# Altium footprint library Midas.PcbLib: 10 footprints
Each footprint in its own frame and in the unit in brackets; x right, y up, seen from the top. Pads: shape width x height; smd on the part's side, far side on the other; paste and mask are expansions set on the pad; w line width, h text height; cw(c..) or ccw(c..) is an arc to the next point about the centre after c.
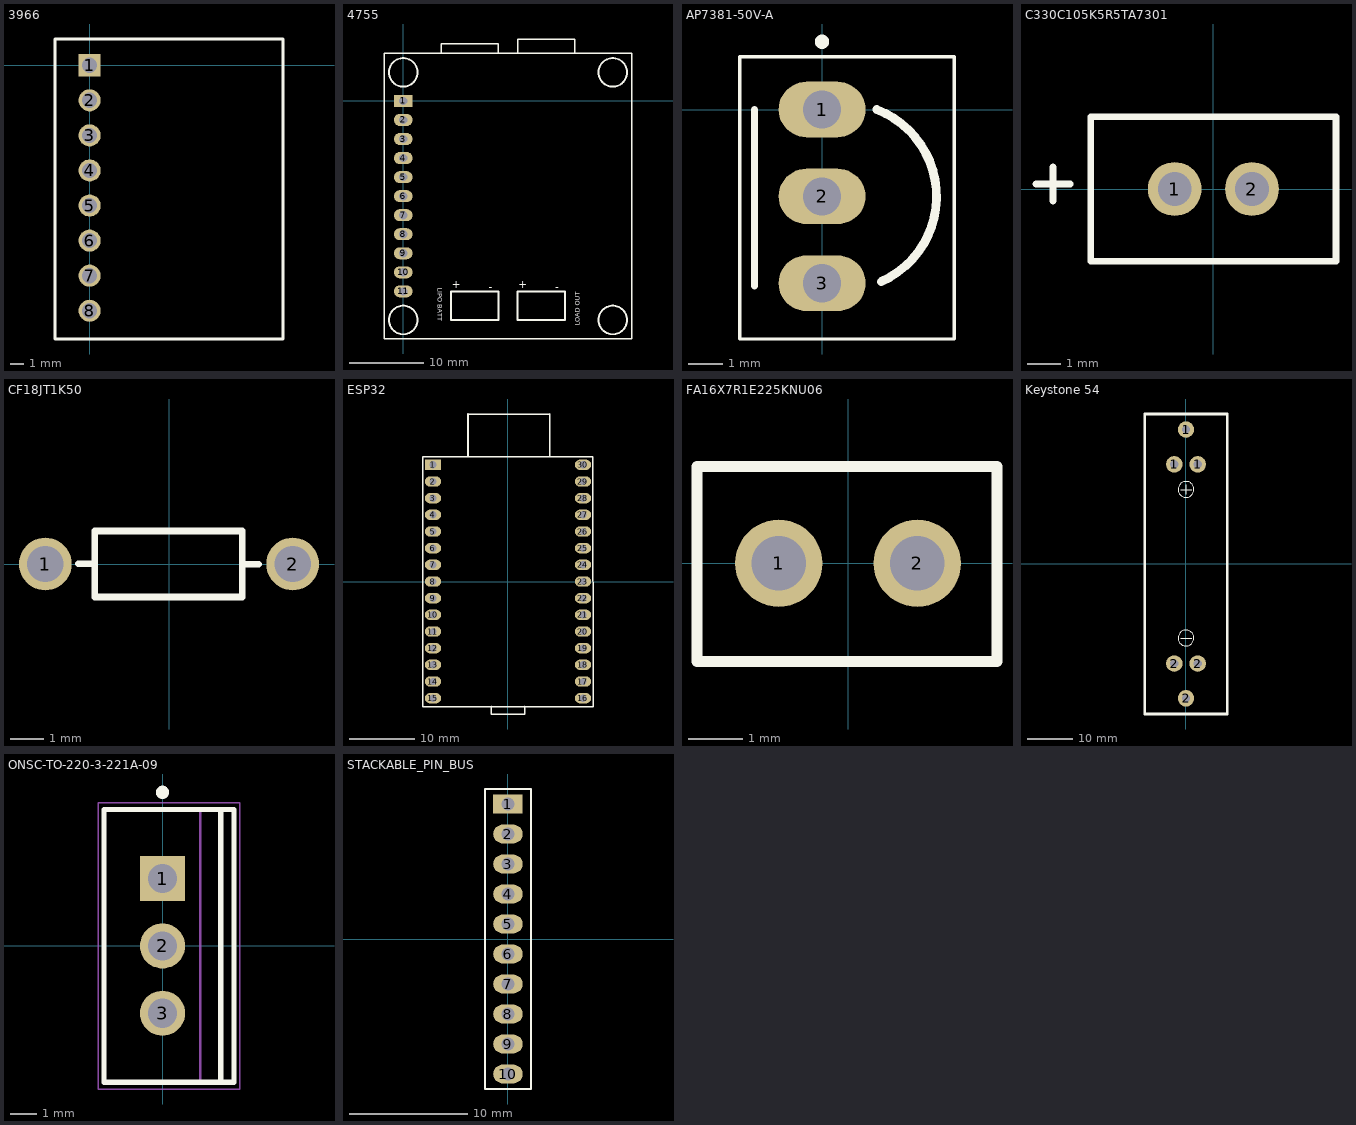
[diagram p0: the footprints below, top view; thin cyan lines are the x and y axes]

## 3966 [mm]
pads (8):
  rect 1.6x1.6 hole 1.1: 1(0,0)
  round 1.6 hole 1.1: 2(0,-2.54) 3(0,-5.08) 4(0,-7.62) 5(0,-10.16) 6(0,-12.7) 7(0,-15.24) 8(0,-17.78)
Top Overlay:
  lines w0.2: -2.5,-19.825 14,-19.825 14,1.9 -2.5,1.9 -2.5,-19.825
3D body "Adafruit BMP388 Breakout.step": height 1.47, standoff -10.13, extent -2.53,-19.74 13.98,1.85

## 4755 [mm]
pads (11):
  rect 2.5x1.6 hole 1.1: 1(0,0)
  oval 2.5x1.6 hole 1.1: 2(0,-2.54) 3(0,-5.08) 4(0,-7.62) 5(0,-10.16) 6(0,-12.7) 7(0,-15.24) 8(0,-17.78) 9(0,-20.32) 10(0,-22.86) 11(0,-25.4)
Top Overlay:
  circle w0.254: c0,3.81 r1.905
  circle w0.254: c0,-29.21 r1.905
  circle w0.254: c27.94,-29.21 r1.905
  circle w0.254: c27.94,3.81 r1.905
  lines w0.2: 5.08,6.35 5.08,7.62 12.7,7.62 12.7,6.35 ; 15.24,6.35 15.24,8.255 22.86,8.255 22.86,6.35 ; -2.54,-31.75 -2.54,6.35 30.48,6.35 30.48,-31.75 -2.54,-31.75
  lines w0.254: 6.35,-29.21 12.7,-29.21 12.7,-25.4 6.35,-25.4 6.35,-29.21 ; 15.24,-29.21 21.59,-29.21 21.59,-25.4 15.24,-25.4 15.24,-29.21
  text "-" at 11.404,-25.296 h1
  text "-" at 20.294,-25.296 h1
  text "+" at 16.536,-24.963 h1
  text "+" at 7.646,-24.963 h1
  text "LIPO BATT" at 4.604,-24.904 h0.65
  text "LOAD OUT" at 23.546,-29.996 h0.65
3D body "Adafruit_BQ24074_V5.step": height 12.57, standoff 0, extent -2.54,-31.802 30.48,9.372

## AP7381-50V-A [mm]
pads (3):
  oval 2.5x1.6 hole 1.1: 1(0,0) 2(0,-2.5) 3(0,-5)
Top Overlay:
  circle w0.254: c0,1.95 r0.079
  lines w0.1: -2.375,-6.604 -2.375,1.524 3.81,1.524 3.81,-6.604 -2.375,-6.604
  lines w0.2: -1.95,-5.08 -1.95,0
  lines w0.254: 1.575,0 cw(c0.612,-2.503) 1.701,-4.954
3D body "AP7381.STEP": height 9.83, standoff -10.09, extent -1.37,-5.205 2.29,0.205

## C330C105K5R5TA7301 [mm]
pads (2):
  round 1.6 / inner round 1.6 / far side round 1.2 hole 1: 1(-1.15,0)
  round 1.6 hole 1: 2(1.15,0)
Top Overlay:
  lines w0.2: -5.278,0.15 -4.262,0.15 ; -4.77,-0.358 -4.77,0.658 ; -3.65,-2.15 3.65,-2.15 3.65,2.15 -3.65,2.15 -3.65,-2.15
3D body "C330C105K5R5TA7301.step": height 7.23, standoff -18.41, extent -3.56,-2.038 3.55,2.038

## CF18JT1K50 [mm]
pads (2):
  round 1.6 hole 1.1: 1(-3.75,0) 2(3.75,0)
Top Overlay:
  lines w0.2: -2.75,0.004 -2.25,0 ; 2.725,-0.004 2.225,0 ; 2.225,0 2.225,1 -2.25,1 -2.25,-1 2.225,-1 2.225,0
3D body "STA_CF18_STP.step": height 2.01, standoff -2.79, extent -4.204,-1 4.204,0.992

## ESP32 [mm]
pads (30):
  rect 2.5x1.6 hole 1.1: 1(-11.43,17.78)
  oval 2.5x1.6 hole 1.1: 2(-11.43,15.24) 3(-11.43,12.7) 4(-11.43,10.16) 5(-11.43,7.62) 6(-11.43,5.08) 7(-11.43,2.54) 8(-11.43,0) 9(-11.43,-2.54) 10(-11.43,-5.08) 11(-11.43,-7.62) 12(-11.43,-10.16) 13(-11.43,-12.7) 14(-11.43,-15.24) 15(-11.43,-17.78) 16(11.43,-17.78) 17(11.43,-15.24) 18(11.43,-12.7) 19(11.43,-10.16) 20(11.43,-7.62) 21(11.43,-5.08) 22(11.43,-2.54) 23(11.43,0) 24(11.43,2.54) 25(11.43,5.08) 26(11.43,7.62) 27(11.43,10.16) 28(11.43,12.7) 29(11.43,15.24) 30(11.43,17.78)
Top Overlay:
  lines w0.2: -6.096,25.527 6.35,25.527 ; -2.54,-20.193 2.54,-20.193 ; 6.477,19.05 12.954,19.05 12.954,-19.05 6.477,-19.05 -12.954,-19.05 -12.954,19.05 6.731,19.05
  lines w0.254: -6.096,19.177 -6.096,25.527 ; -2.54,-20.193 -2.54,-19.05 ; 2.54,-20.193 2.54,-19.05 ; 6.35,19.177 6.35,25.527
3D body "ESP32-C3-DevKitC-02--3DModel-STEP-269445.STEP": height 7.49, standoff -6, extent -12.7,-19.387 12.7,26.033

## FA16X7R1E225KNU06 [mm]
pads (2):
  round 1.6 hole 1: 1(-1.27,0) 2(1.27,0)
Top Overlay:
  lines w0.2: -2.77,-1.8 -2.77,1.775 2.73,1.775 2.73,-1.8 -2.77,-1.8
3D body "FA16X7R1E225KNU06.step": height 4.5, standoff -10.5, extent -2.75,-1.75 2.75,1.75

## Keystone 54 [mm]
pads (6):
  round 3.6 hole 1.8: 1(-2.55,21.75) 1(0,29.35) 1(2.55,21.75) 2(-2.55,-21.75) 2(0,-29.35) 2(2.55,-21.75)
Top Overlay:
  lines w0.254: -1.112,-16.231 0,-16.231 1.219,-16.231 ; -1.112,16.231 0,16.231 1.219,16.231 ; 0,15.206 0,17.344 ; 1.73,-16.108 ccw(c0,-16.187) 1.731,-16.157 ; 1.73,16.354 ccw(c0,16.275) 1.731,16.306
  lines w0.6: -9,-32.775 9,-32.775 9,32.75 -9,32.75 -9,-32.775
3D body "Keystone 54.STEP": height 18.3, standoff -3.05, extent -9.101,-32.931 9.001,-19.928
3D body "Keystone 54.STEP": height 18.3, standoff -3.05, extent -9.126,19.903 8.976,32.906

## ONSC-TO-220-3-221A-09 [mm] "FM, 3-Leads, Body 10.3x4.85mm, Pitch 2.54mm"
height 19.85
pads (3):
  rect 1.7x1.7 hole 1.1: 1(0,2.54)
  round 1.7 hole 1.1: 2(0,0) 3(0,-2.54)
Top Overlay:
  circle w0.25: c0,5.8 r0.125
  lines w0.2: 2.195,-5.15 2.195,5.15 ; -2.205,-5.15 2.695,-5.15 2.695,5.15 -2.205,5.15 -2.205,-5.15
Mechanical 13:
  lines w0.1: 1.42,-5.15 1.42,5.15 ; -2.18,-5.15 -2.18,5.15 2.67,5.15 2.67,-5.15 -2.18,-5.15
Mechanical 15:
  lines w0.05: -2.43,-5.4 -2.43,5.4 2.92,5.4 2.92,-5.4 -2.43,-5.4
  lines w0.1: -0.5,0 0.5,0 ; 0,-0.5 0,0.5
3D body: height 2.8, standoff 0, extent -0.25,1.87 0.25,3.21
3D body: height 0, standoff -1.6, extent -0.25,2.15 0.25,2.93
3D body: height 2.8, standoff 0, extent -0.25,-0.67 0.25,0.67
3D body: height 0, standoff -1.6, extent -0.25,-0.39 0.25,0.39
3D body: height 2.8, standoff 0, extent -0.25,-3.21 0.25,-1.87
3D body: height 0, standoff -1.6, extent -0.25,-2.93 0.25,-2.15
3D body: height 13.65, standoff 2.8, extent -2.18,-5.15 2.67,5.15
3D body: height 15.13, standoff 13.65, extent 1.42,-4.975 2.67,4.975
3D body: height 15.17, standoff 15.13, extent 1.42,0.376 2.67,4.975
3D body: height 15.17, standoff 15.13, extent 1.42,-4.975 2.67,-0.376
3D body: height 18.98, standoff 18.94, extent 1.42,0.376 2.67,4.975
3D body: height 18.98, standoff 18.94, extent 1.42,-4.975 2.67,-0.376
3D body: height 15.28, standoff 15.16, extent 1.42,0.737 2.67,4.975
3D body: height 15.28, standoff 15.16, extent 1.42,-4.975 2.67,-0.737
3D body: height 18.94, standoff 18.83, extent 1.42,0.737 2.67,4.975
3D body: height 18.94, standoff 18.83, extent 1.42,-4.975 2.67,-0.737
3D body: height 15.45, standoff 15.27, extent 1.42,1.069 2.67,4.975
3D body: height 15.45, standoff 15.27, extent 1.42,-4.975 2.67,-1.069
3D body: height 18.83, standoff 18.65, extent 1.42,1.069 2.67,4.975
3D body: height 18.83, standoff 18.65, extent 1.42,-4.975 2.67,-1.069
3D body: height 15.69, standoff 15.45, extent 1.42,1.361 2.67,4.975
3D body: height 15.69, standoff 15.45, extent 1.42,-4.975 2.67,-1.361
3D body: height 18.66, standoff 18.41, extent 1.42,1.361 2.67,4.975
3D body: height 18.66, standoff 18.41, extent 1.42,-4.975 2.67,-1.361
3D body: height 15.99, standoff 15.69, extent 1.42,1.601 2.67,4.975
3D body: height 15.99, standoff 15.69, extent 1.42,-4.975 2.67,-1.601
3D body: height 18.42, standoff 18.12, extent 1.42,1.601 2.67,4.975
3D body: height 18.42, standoff 18.12, extent 1.42,-4.975 2.67,-1.601
3D body: height 16.32, standoff 15.98, extent 1.42,1.778 2.67,4.975
3D body: height 16.32, standoff 15.98, extent 1.42,-4.975 2.67,-1.778
3D body: height 18.12, standoff 17.79, extent 1.42,1.778 2.67,4.975
3D body: height 18.12, standoff 17.79, extent 1.42,-4.975 2.67,-1.778
3D body: height 16.68, standoff 16.31, extent 1.42,1.888 2.67,4.975
3D body: height 16.68, standoff 16.31, extent 1.42,-4.975 2.67,-1.888
3D body: height 17.79, standoff 17.43, extent 1.42,1.888 2.67,4.975
3D body: height 17.79, standoff 17.43, extent 1.42,-4.975 2.67,-1.888
3D body: height 17.05, standoff 16.67, extent 1.42,1.925 2.67,4.975
3D body: height 17.05, standoff 16.67, extent 1.42,-4.975 2.67,-1.925
3D body: height 17.43, standoff 17.05, extent 1.42,1.925 2.67,4.975
3D body: height 17.43, standoff 17.05, extent 1.42,-4.975 2.67,-1.925
3D body: height 19.85, standoff 18.98, extent 1.42,-4.975 2.67,4.975

## STACKABLE_PIN_BUS [mm]
pads (10):
  rect 2.5x1.6 hole 1.1: 1(0,11.43)
  oval 2.5x1.6 hole 1.1: 2(0,8.89) 3(0,6.35) 4(0,3.81) 5(0,1.27) 6(0,-1.27) 7(0,-3.81) 8(0,-6.35) 9(0,-8.89) 10(0,-11.43)
Top Overlay:
  lines w0.2: -1.94,-12.7 1.95,-12.7 1.95,12.7 -1.94,12.7 -1.94,-12.7
3D body "Pin bus x10.STEP": height 8, standoff -9, extent -1.245,-12.685 1.295,12.715